# Altium schematic symbol library TempController.SchLib: 3 symbols
Pins are listed as number, name and electrical type; pins without a type are passive.

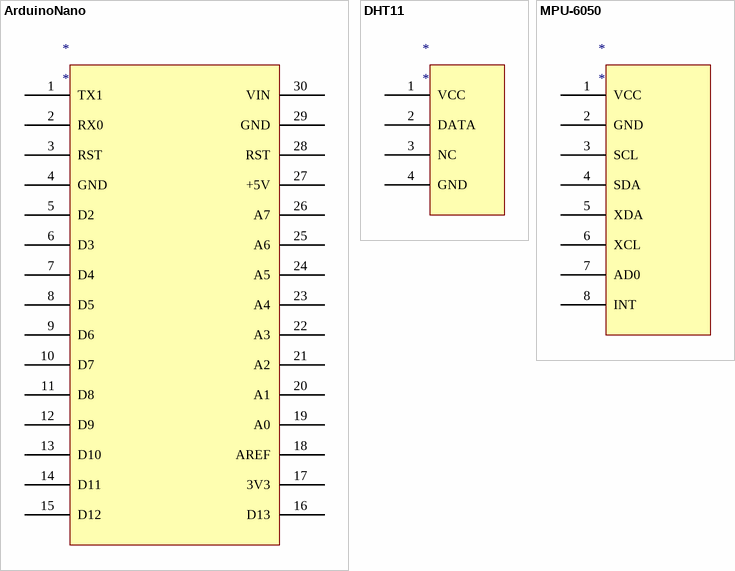
[diagram p0: symbols ArduinoNano to MPU-6050]

## ArduinoNano
designator *
footprint ArduinoNano
pins: 1 TX1, 2 RX0, 3 RST, 4 GND, 5 D2, 6 D3, 7 D4, 8 D5, 9 D6, 10 D7, 11 D8, 12 D9, 13 D10, 14 D11, 15 D12, 16 D13, 17 3V3, 18 AREF, 19 A0, 20 A1, 21 A2, 22 A3, 23 A4, 24 A5, 25 A6, 26 A7, 27 +5V, 28 RST, 29 GND, 30 VIN

## DHT11
designator *
footprint DHT11
pins: 1 VCC, 2 DATA, 3 NC, 4 GND

## MPU-6050
designator *
footprint MPU-6050
pins: 1 VCC, 2 GND, 3 SCL, 4 SDA, 5 XDA, 6 XCL, 7 AD0, 8 INT